# Altium schematic symbol library SCH - CONNECTOR - RJ45 - BEL FUSE 0826-1X1T-32-F.SchLib: 1 symbol
Pins are listed as number, name and electrical type; pins without a type are passive.

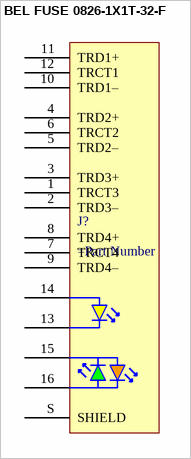
[diagram p0: symbol BEL FUSE 0826-1X1T-32-F]

## BEL FUSE 0826-1X1T-32-F
designator J?
pins: 1 TRCT3, 2 TRD3–, 3 TRD3+, 4 TRD2+, 5 TRD2–, 6 TRCT2, 7 TRCT4, 8 TRD4+, 9 TRD4–, 10 TRD1–, 11 TRD1+, 12 TRCT1, 13 LED1_C, 14 LED1_A, 15 LED2, 16 LED2, S SHIELD